# EAGLE library part MICS-5526 (library Ai_Sensors)
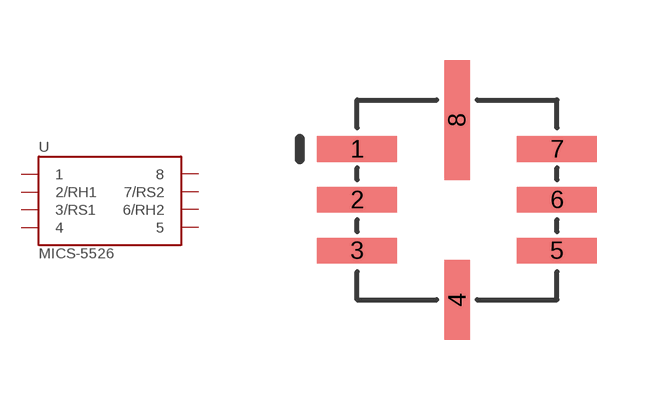
[diagram p3: symbol with the pads of MICS-SMD8; footprint MICS-SMD8]

Designator prefix U

## MICS-5526  [MICS-SMD8]
1  1
2  2/RH1
3  3/RS1
4  4
5  5
6  6/RH2
7  7/RS2
8  8

## Footprint MICS-SMD8 (pad centres in mm)
smd 2 x 0.64: 1 -2.5,1.27; 2 -2.5,0; 3 -2.5,-1.27; 5 2.5,-1.27; 6 2.5,0; 7 2.5,1.27
smd 0.64 x 2: 4 0,-2.5
smd 0.64 x 3: 8 0,2